# Altium footprint library PcbLib1.PcbLib: 23 footprints (part 2 of 2)
Each footprint in its own frame and in the unit in brackets; x right, y up, seen from the top. Pads: shape width x height; smd on the part's side, far side on the other; paste and mask are expansions set on the pad; w line width, h text height; cw(c..) or ccw(c..) is an arc to the next point about the centre after c.
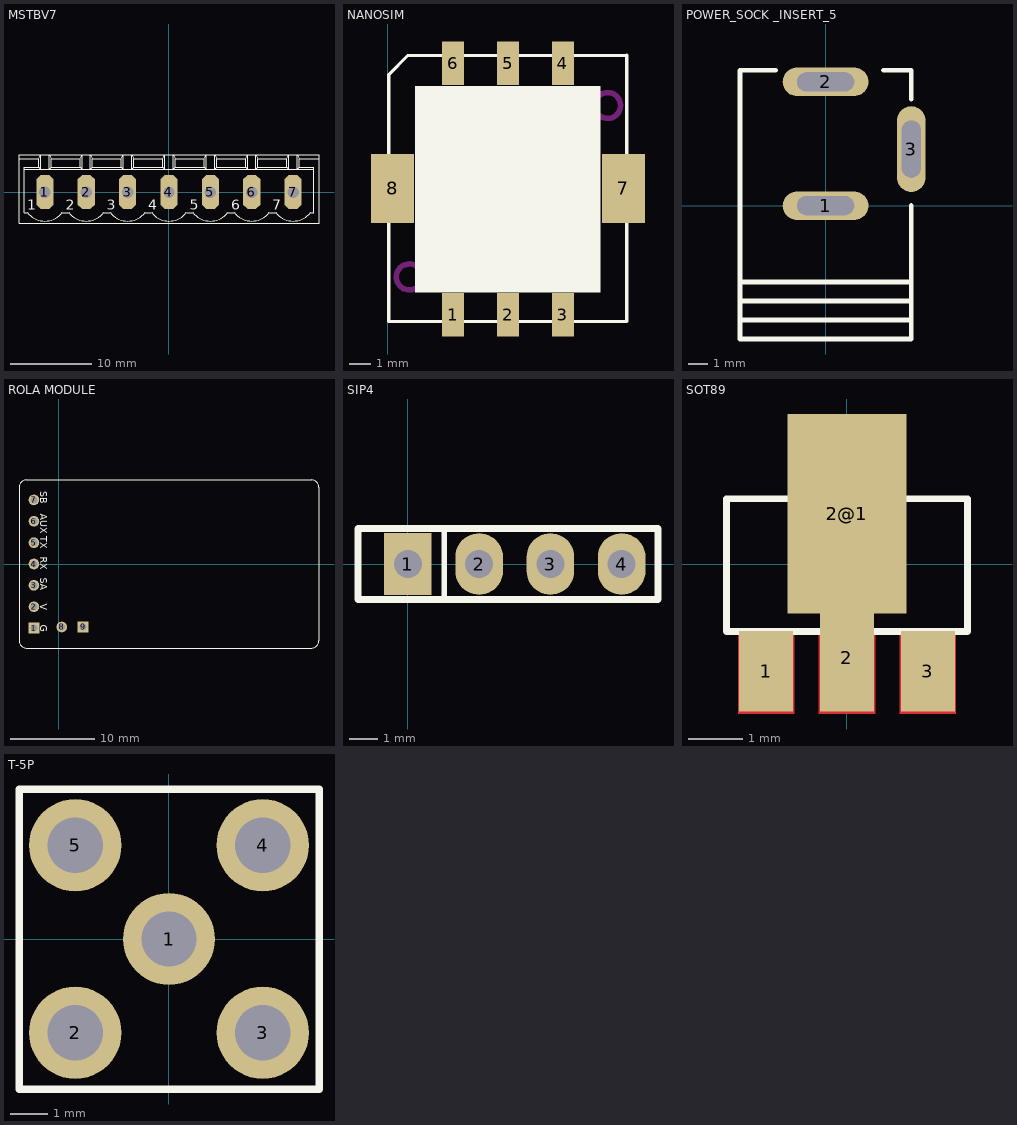
[diagram p1: the footprints below, top view; thin cyan lines are the x and y axes]

## MSTBV7 [mil]
pads (7):
  oct 82.5x165 hole 55: 1(-600,0) 2(-400,0) 3(-200,0) 4(0,0) 5(200,0) 6(400,0) 7(600,0)
Top Overlay:
  drawing of 175 lines, arcs and shapes, not listed
  text "1" at -685,-85 h50
  text "2" at -500,-85 h50
  text "3" at -300,-85 h50
  text "4" at -100,-85 h50
  text "5" at 100,-85 h50
  text "6" at 300,-85 h50
  text "7" at 500,-85 h50

## NANOSIM [mm]
pads (8):
  rect 1x2 smd: 1(3.023,2.667) 2(5.563,2.667) 3(8.103,2.667) 4(8.103,14.3) 5(5.563,14.3) 6(3.023,14.3)
  rect 2x3.2 smd: 7(10.897,8.509) 8(0.229,8.509)
Top Overlay:
  rectangle: 1.27,3.708 9.83,13.233
  lines w0.152: 11.049,2.362 11.049,14.662 ; 11.049,14.656 0.94,14.656 0.051,13.767 0.051,2.362 11.051,2.362
Keep-Out Layer:
  circle w0.254: c10.17,12.344 r0.6
  circle w0.254: c1,4.42 r0.6

## POWER_SOCK _INSERT_5 [mm]
pads (3):
  oval 4.5x1.5 hole 1 slot 3 at 0 deg: 1(0,0) 2(0,6.5)
  oval 1.5x4.5 hole 1 slot 3 at 90 deg: 3(4.5,2.972)
Top Overlay:
  lines w0.254: -4.5,-6 4.5,-6 ; -4.5,-5 4.5,-5 ; -4.5,-4.088 -4.5,7.112 -2.616,7.112 ; -4.5,-4 4.5,-4 ; -4.5,-3.048 -4.5,-6.096 -4.5,-7 4.5,-7 4.5,0 ; 3.048,7.112 4.5,7.112 4.5,5.588

## ROLA MODULE [mil]
pads (9):
  rect 50x50 hole 32: 1(-115,-300) 9(115,-295)
  round 50 hole 32: 2(-115,-200) 3(-115,-100) 4(-115,0) 5(-115,100) 6(-115,200) 7(-115,300) 8(15,-295)
Top Layer:
  lines w10: -115,-100 -114.8,-99.8 ; -115,0 -114.8,-0.2 ; -115,100 -110.2,104.8 ; -115,200 -114.8,199.8 ; -115,300 -114.8,299.8
Top Overlay:
  lines w5: -185,-358.7 ccw(c-150,-358.7) -150,-393.7 1185,-393.7 ccw(c1185,-358.7) 1220,-358.7 1220,358.7 ccw(c1185,358.7) 1185,393.7 -150,393.7 ccw(c-150,358.7) -185,358.7 -185,-358.7
  text "G" at -85,-285 h32
  text "V" at -85,-185 h32
  text "SA" at -85,-65 h32
  text "RX" at -85,35 h32
  text "TX" at -85,130 h32
  text "AUX" at -85,235 h32
  text "SB" at -85,340 h32

## SIP4 [mm]
pads (4):
  rect 1.7x2.2 hole 1: 1(0,0)
  oval 1.7x2.2 hole 1: 2(2.54,0) 3(5.08,0) 4(7.62,0)
Top Overlay:
  lines w0.2: 1.295,-1.27 1.295,1.27
  lines w0.254: -1.778,-1.27 -1.778,1.27 8.915,1.27 8.915,-1.27 -1.778,-1.27

## SOT89 [mm]
pads (4):
  rect 1x1.5 smd: 1(-1.499,-1.981) 3(1.499,-1.981)
  rect 1x2 smd: 2(0,-1.727)
  rect 2.2x3.7 smd: 2@1(0,0.94)
Top Layer:
  rectangle: -1.9,-2.68 -1.1,-1.28
  rectangle: 1.1,-2.68 1.9,-1.28
  rectangle: -0.525,-2.775 0.525,-1.2
  rectangle: 0.975,-2.775 2.025,-1.2
  rectangle: -2.025,-2.775 -0.975,-1.2
  rectangle: -0.4,-2.68 0.4,-1.28
Top Overlay:
  rectangle: -0.279,-2.108 0.279,-1.27
  rectangle: 1.27,-2.108 1.727,-1.27
  rectangle: -1.727,-2.108 -1.27,-1.27
  lines w0.127: -2.235,-1.245 -2.235,1.219 2.235,1.219 2.235,-1.245 -2.235,-1.245
  lines w0.2: -0.787,1.295 -0.787,1.575 -0.356,2.007 0.356,2.007 0.787,1.575 0.787,1.295 -0.787,1.295

## T-5P [mm]
pads (5):
  round 2.5 hole 1.5: 1(0.005,0.005) 2(-2.535,-2.535) 3(2.545,-2.535) 4(2.545,2.545) 5(-2.535,2.545)
Top Overlay:
  lines w0.203: -4.059,-4.059 4.069,-4.059 4.069,4.069 -4.059,4.069 -4.059,-4.059